# Altium integrated library Resistor_0603.IntLib: 1 symbol
Pins are listed as number, name and electrical type; pins without a type are passive.

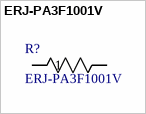
[diagram p0: symbol ERJ-PA3F1001V]

## ERJ-PA3F1001V
designator R?
Description; Manufacturer_Name: Panasonic; Copyright: Copyright (C) 2025 Ultra Librarian. All rights reserved.; Manufacturer_Part_Number: ERJ-PA3F1001V
footprint RES_ERJPA3_PAN
pins: 1, 2